# Altium footprint library Pcblib_20110825.Pcblib: 407 footprints (part 15 of 26)
Each footprint in its own frame and in the unit in brackets; x right, y up, seen from the top. Pads: shape width x height; smd on the part's side, far side on the other; paste and mask are expansions set on the pad; w line width, h text height; cw(c..) or ccw(c..) is an arc to the next point about the centre after c.
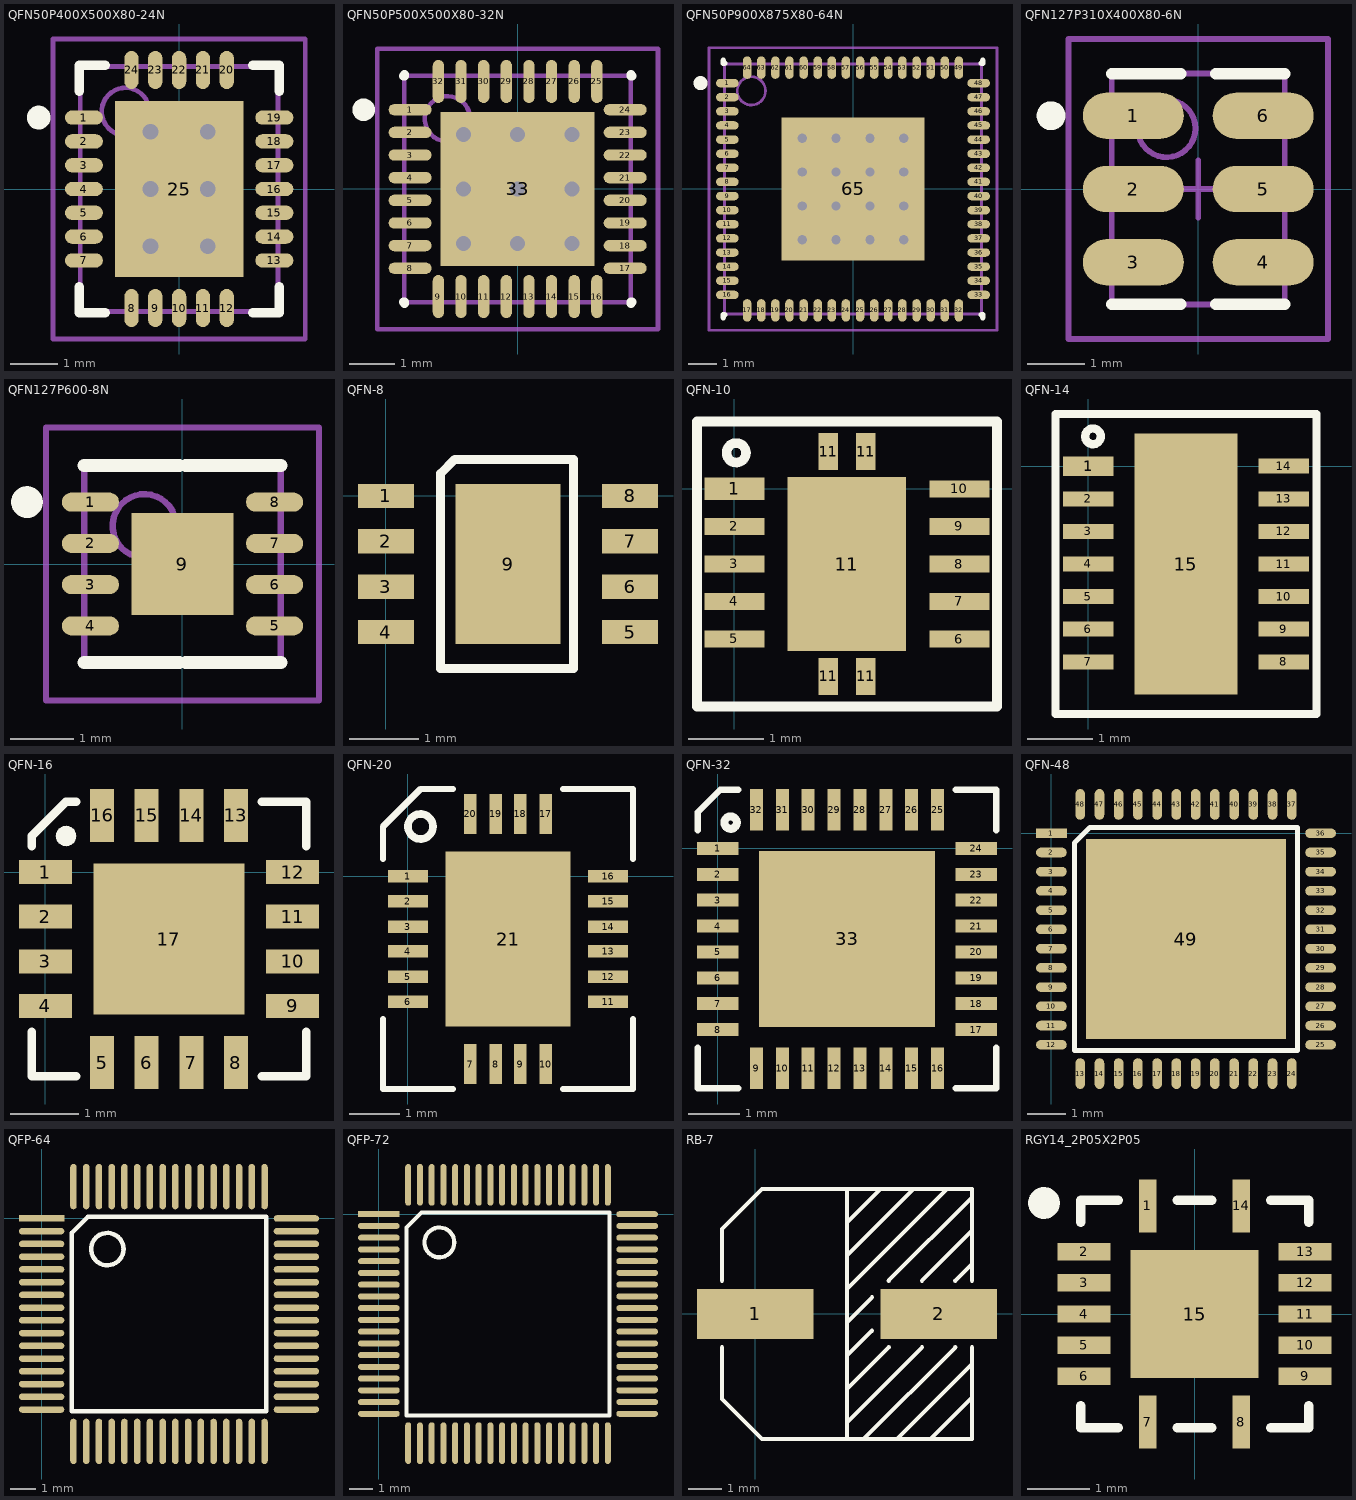
[diagram p14: the footprints below, top view; thin cyan lines are the x and y axes]

## QFN50P400X500X80-24N [mm] "QFN, 24-Leads, Body 5.2x4.2mm (max), Pitch 0.50mm, IPC Medium Density"
height 0.8
pads (25):
  oval 0.8x0.3 smd: 1(-2,1.5) 2(-2,1) 3(-2,0.5) 4(-2,0) 5(-2,-0.5) 6(-2,-1) 7(-2,-1.5) 13(2,-1.5) 14(2,-1) 15(2,-0.5) 16(2,0) 17(2,0.5) 18(2,1) 19(2,1.5)
  oval 0.3x0.8 smd: 8(-1,-2.5) 9(-0.5,-2.5) 10(0,-2.5) 11(0.5,-2.5) 12(1,-2.5) 20(1,2.5) 21(0.5,2.5) 22(0,2.5) 23(-0.5,2.5) 24(-1,2.5)
  rect 2.7x3.7 smd: 25(0,0)
via 0.6,-1.2 diameter 0.66 hole 0.33
via -0.6,-1.2 diameter 0.66 hole 0.33
via 0.6,0 diameter 0.66 hole 0.33
via -0.6,0 diameter 0.66 hole 0.33
via 0.6,1.2 diameter 0.66 hole 0.33
via -0.6,1.2 diameter 0.66 hole 0.33
TopOverlay:
  circle w0.25: c-2.95,1.5 r0.125
  lines w0.2: -2.1,-2.05 -2.1,-2.6 -1.55,-2.6 ; -2.1,2.05 -2.1,2.6 -1.55,2.6 ; 1.55,-2.6 2.1,-2.6 2.1,-2.05 ; 1.55,2.6 2.1,2.6 2.1,2.05
Mechanical13:
  circle w0.1: c-1.125,1.625 r0.5
  lines w0.1: -2.075,-2.575 2.075,-2.575 2.075,2.575 -2.075,2.575 -2.075,-2.575
Mechanical15:
  lines w0.1: -0.5,0 0.5,0 ; 0,-0.5 0,0.5 ; -2.65,-3.15 2.65,-3.15 2.65,3.15 -2.65,3.15 -2.65,-3.15
3D body: height 0.8, standoff 0.01, extent -2.075,-2.575 2.075,2.575

## QFN50P500X500X80-32N [mm] "QFN, 32-Leads, Body 5.0x5.0mm (max), Pitch 0.50mm, IPC Medium Density"
height 0.8
pads (33):
  oval 0.95x0.25 smd: 1(-2.375,1.75) 2(-2.375,1.25) 3(-2.375,0.75) 4(-2.375,0.25) 5(-2.375,-0.25) 6(-2.375,-0.75) 7(-2.375,-1.25) 8(-2.375,-1.75) 17(2.375,-1.75) 18(2.375,-1.25) 19(2.375,-0.75) 20(2.375,-0.25) 21(2.375,0.25) 22(2.375,0.75) 23(2.375,1.25) 24(2.375,1.75)
  oval 0.25x0.95 smd: 9(-1.75,-2.375) 10(-1.25,-2.375) 11(-0.75,-2.375) 12(-0.25,-2.375) 13(0.25,-2.375) 14(0.75,-2.375) 15(1.25,-2.375) 16(1.75,-2.375) 25(1.75,2.375) 26(1.25,2.375) 27(0.75,2.375) 28(0.25,2.375) 29(-0.25,2.375) 30(-0.75,2.375) 31(-1.25,2.375) 32(-1.75,2.375)
  rect 3.4x3.4 smd: 33(0,0)
via 1.2,-1.2 diameter 0.66 hole 0.33
via 0,-1.2 diameter 0.66 hole 0.33
via -1.2,-1.2 diameter 0.66 hole 0.33
via 1.2,0 diameter 0.66 hole 0.33
via 0,0 diameter 0.66 hole 0.33
via -1.2,0 diameter 0.66 hole 0.33
via 1.2,1.2 diameter 0.66 hole 0.33
via 0,1.2 diameter 0.66 hole 0.33
via -1.2,1.2 diameter 0.66 hole 0.33
TopOverlay:
  circle w0.25: c-3.4,1.75 r0.125
  lines w0.2: -2.525,-2.5 -2.5,-2.5 -2.5,-2.525 ; -2.525,2.5 -2.5,2.5 -2.5,2.525 ; 2.5,-2.525 2.5,-2.5 2.525,-2.5 ; 2.5,2.525 2.5,2.5 2.525,2.5
Mechanical13:
  circle w0.1: c-1.55,1.55 r0.5
  lines w0.1: -2.5,-2.5 2.5,-2.5 2.5,2.5 -2.5,2.5 -2.5,-2.5
Mechanical15:
  lines w0.1: -0.5,0 0.5,0 ; 0,-0.5 0,0.5 ; -3.1,-3.1 3.1,-3.1 3.1,3.1 -3.1,3.1 -3.1,-3.1
3D body: height 0.8, standoff 0.01, extent -2.5,-2.5 2.5,2.5

## QFN50P900X875X80-64N [mm] "QFN, 64-Leads, Body 8.9x9.1mm (max), Pitch 0.50mm, IPC Medium Density"
height 0.8
pads (65):
  oval 0.8x0.3 smd: 1(-4.45,3.75) 2(-4.45,3.25) 3(-4.45,2.75) 4(-4.45,2.25) 5(-4.45,1.75) 6(-4.45,1.25) 7(-4.45,0.75) 8(-4.45,0.25) 9(-4.45,-0.25) 10(-4.45,-0.75) 11(-4.45,-1.25) 12(-4.45,-1.75) 13(-4.45,-2.25) 14(-4.45,-2.75) 15(-4.45,-3.25) 16(-4.45,-3.75) 33(4.45,-3.75) 34(4.45,-3.25) 35(4.45,-2.75) 36(4.45,-2.25) 37(4.45,-1.75) 38(4.45,-1.25) 39(4.45,-0.75) 40(4.45,-0.25) 41(4.45,0.25) 42(4.45,0.75) 43(4.45,1.25) 44(4.45,1.75) 45(4.45,2.25) 46(4.45,2.75) 47(4.45,3.25) 48(4.45,3.75)
  oval 0.3x0.8 smd: 17(-3.75,-4.3) 18(-3.25,-4.3) 19(-2.75,-4.3) 20(-2.25,-4.3) 21(-1.75,-4.3) 22(-1.25,-4.3) 23(-0.75,-4.3) 24(-0.25,-4.3) 25(0.25,-4.3) 26(0.75,-4.3) 27(1.25,-4.3) 28(1.75,-4.3) 29(2.25,-4.3) 30(2.75,-4.3) 31(3.25,-4.3) 32(3.75,-4.3) 49(3.75,4.3) 50(3.25,4.3) 51(2.75,4.3) 52(2.25,4.3) 53(1.75,4.3) 54(1.25,4.3) 55(0.75,4.3) 56(0.25,4.3) 57(-0.25,4.3) 58(-0.75,4.3) 59(-1.25,4.3) 60(-1.75,4.3) 61(-2.25,4.3) 62(-2.75,4.3) 63(-3.25,4.3) 64(-3.75,4.3)
  rect 5.08x5.08 smd: 65(0,0)
via 1.8,-1.8 diameter 0.66 hole 0.33
via 0.6,-1.8 diameter 0.66 hole 0.33
via -0.6,-1.8 diameter 0.66 hole 0.33
via -1.8,-1.8 diameter 0.66 hole 0.33
via 1.8,-0.6 diameter 0.66 hole 0.33
via 0.6,-0.6 diameter 0.66 hole 0.33
via -0.6,-0.6 diameter 0.66 hole 0.33
via -1.8,-0.6 diameter 0.66 hole 0.33
via 1.8,0.6 diameter 0.66 hole 0.33
via 0.6,0.6 diameter 0.66 hole 0.33
via -0.6,0.6 diameter 0.66 hole 0.33
via -1.8,0.6 diameter 0.66 hole 0.33
via 1.8,1.8 diameter 0.66 hole 0.33
via 0.6,1.8 diameter 0.66 hole 0.33
via -0.6,1.8 diameter 0.66 hole 0.33
via -1.8,1.8 diameter 0.66 hole 0.33
TopOverlay:
  circle w0.25: c-5.4,3.75 r0.125
  lines w0.2: -4.6,-4.55 -4.6,-4.45 -4.55,-4.45 ; -4.6,4.55 -4.6,4.45 -4.55,4.45 ; 4.55,-4.45 4.6,-4.45 4.6,-4.55 ; 4.55,4.45 4.6,4.45 4.6,4.55
Mechanical13:
  circle w0.1: c-3.6,3.475 r0.5
  lines w0.1: -4.55,-4.425 4.55,-4.425 4.55,4.425 -4.55,4.425 -4.55,-4.425
Mechanical15:
  lines w0.1: -0.5,0 0.5,0 ; 0,-0.5 0,0.5 ; -5.1,-5 5.1,-5 5.1,5 -5.1,5 -5.1,-5
3D body: height 0.8, standoff 0.01, extent -4.55,-4.425 4.55,4.425

## QFN127P310X400X80-6N [mm] "QFN, 6-Leads, Body 4.0x3.0mm (max), Pitch 1.27mm, IPC Medium Density"
height 0.8
pads (6):
  oval 1.75x0.8 smd: 1(-1.125,1.27) 2(-1.125,0) 3(-1.125,-1.27) 4(1.125,-1.27) 5(1.125,0) 6(1.125,1.27)
TopOverlay:
  circle w0.25: c-2.55,1.27 r0.125
  lines w0.2: -1.5,-2 -0.3,-2 ; -1.5,2 -0.3,2 ; 0.3,-2 1.5,-2 ; 0.3,2 1.5,2
Mechanical13:
  circle w0.1: c-0.55,1.05 r0.5
  lines w0.1: -1.5,-2 -1.5,2 1.5,2 1.5,-2 -1.5,-2
Mechanical15:
  lines w0.1: -0.5,0 0.5,0 ; 0,-0.5 0,0.5 ; -2.25,-2.6 -2.25,2.6 2.25,2.6 2.25,-2.6 -2.25,-2.6
3D body: height 0.8, standoff 0.01, extent -1.5,-2 1.5,2

## QFN127P600-8N [mm]
height 0.8
pads (9):
  oval 0.9x0.3 smd: 1(-1.45,0.975) 2(-1.45,0.325) 3(-1.45,-0.325) 4(-1.45,-0.975) 5(1.45,-0.975) 6(1.45,-0.325) 7(1.45,0.325) 8(1.45,0.975)
  rect 1.6x1.6 smd: 9(0,0)
TopOverlay:
  circle w0.25: c-2.45,0.975 r0.125
  lines w0.2: -1.55,-1.55 -0.05,-1.55 ; -1.55,1.55 -0.05,1.55 ; 0.05,-1.55 1.55,-1.55 ; 0.05,1.55 1.55,1.55
Mechanical13:
  circle w0.1: c-0.6,0.6 r0.5
  lines w0.1: -1.55,-1.55 -1.55,1.55 1.55,1.55 1.55,-1.55 -1.55,-1.55
Mechanical15:
  lines w0.1: -0.5,0 0.5,0 ; 0,-0.5 0,0.5 ; -2.15,-2.15 -2.15,2.15 2.15,2.15 2.15,-2.15 -2.15,-2.15
3D body: height 0.8, standoff 0.01, extent -1.55,-1.55 1.55,1.55

## QFN-8 [mm]
pads (9):
  rect 0.8x0.35 smd: 1(0,0) 2(0,-0.65) 3(0,-1.3) 4(0,-1.95) 5(3.5,-1.95) 6(3.5,-1.3) 7(3.5,-0.65) 8(3.5,0)
  rect 1.5x2.3 smd: 9(1.75,-0.975)
TopOverlay:
  lines w0.127: 0.785,-2.475 2.69,-2.475 2.69,0.525 0.988,0.525 0.785,0.322 0.785,-2.475

## QFN-10 [mm]
pads (15):
  rect 0.8x0.3 smd: 1(0,0)
  rect 0.8x0.23 smd: 2(0,-0.5) 3(0,-1) 4(0,-1.5) 5(0,-2) 6(3,-2) 7(3,-1.5) 8(3,-1) 9(3,-0.5) 10(3,0)
  rect 0.26x0.5 smd: 11(1.25,-2.5) 11(1.25,0.5) 11(1.75,-2.5) 11(1.75,0.5)
  rect 1.58x2.32 smd: 11(1.5,-1)
TopOverlay:
  circle w0.127: c0.023,0.483 r0.13
  lines w0.127: -0.5,-2.9 -0.5,0.9 3.5,0.9 3.5,-2.9 -0.5,-2.9

## QFN-14 [mm]
pads (15):
  rect 0.77x0.3 smd: 1(0,0)
  rect 0.77x0.23 smd: 2(0,-0.5) 3(0,-1) 4(0,-1.5) 5(0,-2) 6(0,-2.5) 7(0,-3) 8(3,-3) 9(3,-2.5) 10(3,-2) 11(3,-1.5) 12(3,-1) 13(3,-0.5) 14(3,0)
  rect 1.58x4 smd: 15(1.5,-1.5)
TopOverlay:
  circle w0.127: c0.074,0.457 r0.12
  lines w0.127: -0.5,-3.8 3.5,-3.8 3.5,0.8 -0.5,0.8 -0.5,-3.8

## QFN-16 [mm]
pads (18):
  rect 0.77x0.35 smd: 1(0,0) 2(0,-0.65) 3(0,-1.3) 4(0,-1.95) 9(3.6,-1.95) 10(3.6,-1.3) 11(3.6,-0.65) 12(3.6,0)
  rect 0.35x0.77 smd: 5(0.825,-2.775) 6(1.475,-2.775) 7(2.125,-2.775) 8(2.775,-2.775) 13(2.775,0.825) 14(2.125,0.825) 15(1.475,0.825) 16(0.825,0.825)
  rect 2.2x2.2 smd: 17(1.8,-0.975)
  round 0.3 on Top Overlay: ""(0.3,0.525)
TopOverlay:
  lines w0.127: -0.2,-2.325 -0.2,-2.975 0.45,-2.975 ; -0.2,0.375 -0.2,0.525 0.3,1.025 0.45,1.025 ; 3.15,-2.975 3.8,-2.975 3.8,-2.325 ; 3.15,1.025 3.8,1.025 3.8,0.375

## QFN-20 [mm]
pads (21):
  rect 0.8x0.25 smd: 1(0,0) 2(0,-0.5) 3(0,-1) 4(0,-1.5) 5(0,-2) 6(0,-2.5) 11(4,-2.5) 12(4,-2) 13(4,-1.5) 14(4,-1) 15(4,-0.5) 16(4,0)
  rect 0.25x0.8 smd: 7(1.25,-3.75) 8(1.75,-3.75) 9(2.25,-3.75) 10(2.75,-3.75) 17(2.75,1.25) 18(2.25,1.25) 19(1.75,1.25) 20(1.25,1.25)
  rect 2.5x3.5 smd: 21(2,-1.25)
TopOverlay:
  circle w0.152: c0.25,1 r0.25
  lines w0.127: -0.5,-2.85 -0.5,-4.25 0.9,-4.25 ; -0.5,0.35 -0.5,1 0.25,1.75 0.9,1.75 ; 3.1,-4.25 4.5,-4.25 4.5,-2.85 ; 3.1,1.75 4.5,1.75 4.5,0.35

## QFN-32 [mm]
pads (33):
  rect 0.8x0.25 smd: 1(0,0) 2(0,-0.5) 3(0,-1) 4(0,-1.5) 5(0,-2) 6(0,-2.5) 7(0,-3) 8(0,-3.5) 17(5,-3.5) 18(5,-3) 19(5,-2.5) 20(5,-2) 21(5,-1.5) 22(5,-1) 23(5,-0.5) 24(5,0)
  rect 0.25x0.8 smd: 9(0.75,-4.25) 10(1.25,-4.25) 11(1.75,-4.25) 12(2.25,-4.25) 13(2.75,-4.25) 14(3.25,-4.25) 15(3.75,-4.25) 16(4.25,-4.25) 25(4.25,0.75) 26(3.75,0.75) 27(3.25,0.75) 28(2.75,0.75) 29(2.25,0.75) 30(1.75,0.75) 31(1.25,0.75) 32(0.75,0.75)
  rect 3.4x3.4 smd: 33(2.5,-1.75)
TopOverlay:
  circle w0.152: c0.25,0.5 r0.12
  lines w0.127: -0.386,-3.85 -0.386,-4.636 0.4,-4.636 ; -0.386,0.35 -0.386,0.7 0.05,1.137 0.4,1.137 ; 4.6,-4.636 5.386,-4.636 5.386,-3.85 ; 4.6,1.137 5.386,1.137 5.386,0.35

## QFN-48 [mm]
pads (49):
  rect 0.8x0.25 smd: 1(0,0)
  oval 0.8x0.25 smd: 2(0,-0.5) 3(0,-1) 4(0,-1.5) 5(0,-2) 6(0,-2.5) 7(0,-3) 8(0,-3.5) 9(0,-4) 10(0,-4.5) 11(0,-5) 12(0,-5.5) 25(7,-5.5) 26(7,-5) 27(7,-4.5) 28(7,-4) 29(7,-3.5) 30(7,-3) 31(7,-2.5) 32(7,-2) 33(7,-1.5) 34(7,-1) 35(7,-0.5) 36(7,0)
  oval 0.25x0.8 smd: 13(0.75,-6.25) 14(1.25,-6.25) 15(1.75,-6.25) 16(2.25,-6.25) 17(2.75,-6.25) 18(3.25,-6.25) 19(3.75,-6.25) 20(4.25,-6.25) 21(4.75,-6.25) 22(5.25,-6.25) 23(5.75,-6.25) 24(6.25,-6.25) 37(6.25,0.75) 38(5.75,0.75) 39(5.25,0.75) 40(4.75,0.75) 41(4.25,0.75) 42(3.75,0.75) 43(3.25,0.75) 44(2.75,0.75) 45(2.25,0.75) 46(1.75,0.75) 47(1.25,0.75) 48(0.75,0.75)
  rect 5.2x5.2 smd: 49(3.5,-2.75)
TopOverlay:
  lines w0.127: 0.6,-5.65 6.4,-5.65 6.4,0.15 1,0.15 0.6,-0.25 0.6,-5.65

## QFP-64 [mil]
pads (64):
  rect 70x10 smd: 1(0,0)
  oval 70x10 smd: 2(0,-19.68) 3(0,-39.37) 4(0,-59.05) 5(0,-78.74) 6(0,-98.42) 7(0,-118.11) 8(0,-137.8) 9(0,-157.48) 10(0,-177.17) 11(0,-196.85) 12(0,-216.54) 13(0,-236.22) 14(0,-255.91) 15(0,-275.59) 16(0,-295.28) 33(393.7,-295.28) 34(393.7,-275.59) 35(393.7,-255.91) 36(393.7,-236.22) 37(393.7,-216.54) 38(393.7,-196.85) 39(393.7,-177.17) 40(393.7,-157.48) 41(393.7,-137.79) 42(393.7,-118.11) 43(393.7,-98.43) 44(393.7,-78.74) 45(393.7,-59.05) 46(393.7,-39.37) 47(393.7,-19.68) 48(393.7,0)
  oval 10x70 smd: 17(49.21,-344.49) 18(68.9,-344.49) 19(88.58,-344.49) 20(108.27,-344.49) 21(127.95,-344.49) 22(147.64,-344.49) 23(167.32,-344.49) 24(187.01,-344.49) 25(206.69,-344.49) 26(226.38,-344.49) 27(246.06,-344.49) 28(265.75,-344.49) 29(285.43,-344.49) 30(305.12,-344.49) 31(324.8,-344.49) 32(344.49,-344.49) 49(344.49,49.21) 50(324.8,49.21) 51(305.12,49.21) 52(285.43,49.21) 53(265.75,49.21) 54(246.06,49.21) 55(226.38,49.21) 56(206.69,49.21) 57(187.01,49.21) 58(167.32,49.21) 59(147.64,49.21) 60(127.95,49.21) 61(108.27,49.21) 62(88.58,49.21) 63(68.9,49.21) 64(49.21,49.21)
TopOverlay:
  circle w7: c101.53,-47.32 r25
  lines w7: 46.53,-297.95 347.17,-297.95 347.17,2.68 71.53,2.68 46.53,-22.32 46.53,-297.95

## QFP-72 [mil]
pads (72):
  rect 70x10 smd: 1(0,0)
  oval 70x10 smd: 2(0,-19.68) 3(0,-39.37) 4(0,-59.05) 5(0,-78.74) 6(0,-98.42) 7(0,-118.11) 8(0,-137.8) 9(0,-157.48) 10(0,-177.17) 11(0,-196.85) 12(0,-216.54) 13(0,-236.22) 14(0,-255.91) 15(0,-275.59) 16(0,-295.28) 17(0,-314.96) 18(0,-334.65) 37(433.07,-334.65) 38(433.07,-314.96) 39(433.07,-295.28) 40(433.07,-275.59) 41(433.07,-255.91) 42(433.07,-236.22) 43(433.07,-216.54) 44(433.07,-196.85) 45(433.07,-177.17) 46(433.07,-157.48) 47(433.07,-137.79) 48(433.07,-118.11) 49(433.07,-98.43) 50(433.07,-78.74) 51(433.07,-59.05) 52(433.07,-39.37) 53(433.07,-19.68) 54(433.07,0)
  oval 10x70 smd: 19(49.21,-383.86) 20(68.9,-383.86) 21(88.58,-383.86) 22(108.27,-383.86) 23(127.95,-383.86) 24(147.64,-383.86) 25(167.32,-383.86) 26(187.01,-383.86) 27(206.69,-383.86) 28(226.38,-383.86) 29(246.06,-383.86) 30(265.75,-383.86) 31(285.43,-383.86) 32(305.12,-383.86) 33(324.8,-383.86) 34(344.49,-383.86) 35(364.17,-383.86) 36(383.86,-383.86) 55(383.86,49.21) 56(364.17,49.21) 57(344.49,49.21) 58(324.8,49.21) 59(305.12,49.21) 60(285.43,49.21) 61(265.75,49.21) 62(246.06,49.21) 63(226.38,49.21) 64(206.69,49.21) 65(187.01,49.21) 66(167.32,49.21) 67(147.64,49.21) 68(127.95,49.21) 69(108.27,49.21) 70(88.58,49.21) 71(68.9,49.21) 72(49.21,49.21)
TopOverlay:
  circle w7: c101.53,-47.32 r25
  lines w7: 46.53,-337.32 386.54,-337.32 386.54,2.68 71.53,2.68 46.53,-22.32 46.53,-337.32

## RB-7 [mm]
pads (2):
  rect 3.5x1.5 smd: 1(0,0) 2(5.5,0)
TopOverlay:
  lines w0.127: -1,-1 -1,-2.55 0.2,-3.75 6.5,-3.75 6.5,-1 ; -1,1 -1,2.55 0.2,3.75 6.5,3.75 6.5,1 ; 2.75,-3.75 2.75,3.75 ; 2.75,-3.25 5,-1 ; 2.75,-2.25 4,-1 ; 2.75,-1.25 3.5,-0.5 ; 2.75,-0.25 3.5,0.5 ; 2.75,0.75 5.75,3.75 ; 2.75,1.75 4.75,3.75 ; 2.75,2.75 3.75,3.75 ; 3.25,-3.75 6,-1 ; 4,1 6.5,3.5 ; 4.25,-3.75 6.5,-1.5 ; 5,1 6.5,2.5 ; 5.25,-3.75 6.5,-2.5 ; 6,1 6.5,1.5

## RGY14_2P05X2P05 [mm]
pads (15):
  rect 0.28x0.85 smd paste-0.412: 1(-0.75,1.731) 7(-0.75,-1.731) 8(0.75,-1.731) 14(0.75,1.731)
  rect 0.85x0.28 smd paste-0.412: 2(-1.769,1) 3(-1.769,0.5) 4(-1.769,0) 5(-1.769,-0.5) 6(-1.769,-1) 9(1.769,-1) 10(1.769,-0.5) 11(1.769,0) 12(1.769,0.5) 13(1.769,1)
  rect 2.05x2.05 smd paste-1.012 mask-1.016: 15(0,0)
TopLayer:
  region: 0,-1.025
  region: 0,1.025
TopOverlay:
  circle w0.254: c-2.413,1.778 r0.127
  lines w0.152: -1.825,-1.473 -1.825,-1.825 -1.223,-1.825 ; -1.825,1.473 -1.825,1.825 -1.223,1.825 ; -0.277,-1.825 0.277,-1.825 ; -0.277,1.825 0.277,1.825 ; 1.223,-1.825 1.825,-1.825 1.825,-1.473 ; 1.223,1.825 1.825,1.825 1.825,1.473
TopPaste:
  drawing of 27 lines, arcs and shapes, not listed
TopSolder:
  region: 0.594,-1.088 0.594,1.088 1.088,1.088 1.088,-1.088
  region: 0.194,-1.088 0.194,1.088 -0.194,1.088 -0.194,-1.088
  region: -1.088,-1.088 -1.088,1.088 -0.594,1.088 -0.594,-1.088
  region: -1.088,-1.088 -1.088,-0.594 1.088,-0.594 1.088,-1.088
  region: -1.088,-0.194 -1.088,0.194 1.088,0.194 1.088,-0.194
  region: -1.088,0.594 -1.088,1.088 1.088,1.088 1.088,0.594
  region: 0,-1.025
  region: 0,1.025
  region: -0.54,2.226 -0.96,2.226 -0.96,1.236 -0.54,1.236
  region: 0.96,2.226 0.54,2.226 0.54,1.236 0.96,1.236
  region: 2.264,1.21 1.274,1.21 1.274,0.79 2.264,0.79
  region: 2.264,0.71 1.274,0.71 1.274,0.29 2.264,0.29
  region: 2.264,0.21 1.274,0.21 1.274,-0.21 2.264,-0.21
  region: 2.264,-0.29 1.274,-0.29 1.274,-0.71 2.264,-0.71
  region: 2.264,-0.79 1.274,-0.79 1.274,-1.21 2.264,-1.21
  region: 0.96,-1.236 0.54,-1.236 0.54,-2.226 0.96,-2.226
  region: -0.54,-1.236 -0.96,-1.236 -0.96,-2.226 -0.54,-2.226
  region: -1.274,-0.79 -2.264,-0.79 -2.264,-1.21 -1.274,-1.21
  region: -1.274,-0.29 -2.264,-0.29 -2.264,-0.71 -1.274,-0.71
  region: -1.274,0.21 -2.264,0.21 -2.264,-0.21 -1.274,-0.21
  region: -1.274,0.71 -2.264,0.71 -2.264,0.29 -1.274,0.29
  region: -1.274,1.21 -2.264,1.21 -2.264,0.79 -1.274,0.79